# EAGLE library part TX24-120R-6ST-H1E (library con-jae)
CONN RCPT 1.27MM 120POS GOLD PCB
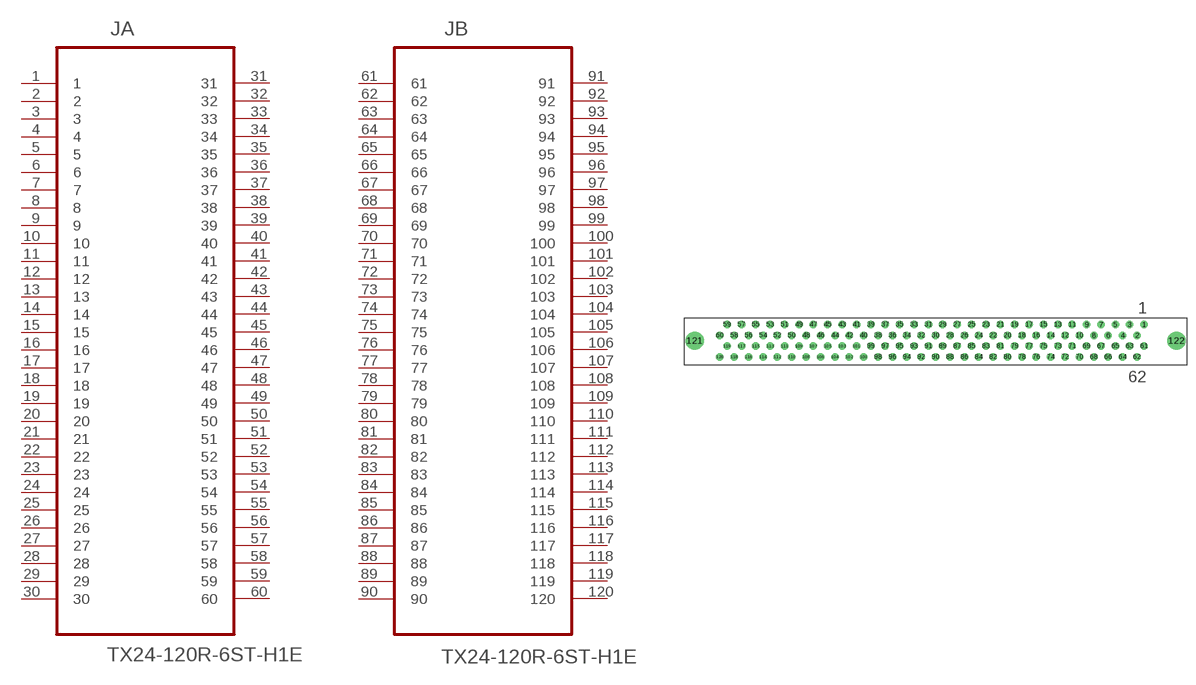
[diagram p16: symbol with the pads of JAE_TX24-120R-6ST-H1E; footprint JAE_TX24-120R-6ST-H1E]

Designator prefix J; gates A=TX24-120R-6ST-H1E_A B=TX24-120R-6ST-H1E_B

## TX24-120R-6ST-H1E (DATASHEETLINK: http://www.jae.com/z-en/pdf_download_exec.cfm?param=SJ038252.pdf; MPN: TX24-120R-6ST-H1E; OC_FARNELL: 1519626; OC_NEWARK: 74M4875; PACKAGE: CONN-120POS; ROHS: Yes; SUPPLIER: JAE)  [JAE_TX24-120R-6ST-H1E]
1  A:1  pas
2  A:2  pas
3  A:3  pas
4  A:4  pas
5  A:5  pas
6  A:6  pas
7  A:7  pas
8  A:8  pas
9  A:9  pas
10  A:10  pas
11  A:11  pas
12  A:12  pas
13  A:13  pas
14  A:14  pas
15  A:15  pas
16  A:16  pas
17  A:17  pas
18  A:18  pas
19  A:19  pas
20  A:20  pas
21  A:21  pas
22  A:22  pas
23  A:23  pas
24  A:24  pas
25  A:25  pas
26  A:26  pas
27  A:27  pas
28  A:28  pas
29  A:29  pas
30  A:30  pas
31  A:31  pas
32  A:32  pas
33  A:33  pas
34  A:34  pas
35  A:35  pas
36  A:36  pas
37  A:37  pas
38  A:38  pas
39  A:39  pas
40  A:40  pas
41  A:41  pas
42  A:42  pas
43  A:43  pas
44  A:44  pas
45  A:45  pas
46  A:46  pas
47  A:47  pas
48  A:48  pas
49  A:49  pas
50  A:50  pas
51  A:51  pas
52  A:52  pas
53  A:53  pas
54  A:54  pas
55  A:55  pas
56  A:56  pas
57  A:57  pas
58  A:58  pas
59  A:59  pas
60  A:60  pas
61  B:61  pas
62  B:62  pas
63  B:63  pas
64  B:64  pas
65  B:65  pas
66  B:66  pas
67  B:67  pas
68  B:68  pas
69  B:69  pas
70  B:70  pas
71  B:71  pas
72  B:72  pas
73  B:73  pas
74  B:74  pas
75  B:75  pas
76  B:76  pas
77  B:77  pas
78  B:78  pas
79  B:79  pas
80  B:80  pas
81  B:81  pas
82  B:82  pas
83  B:83  pas
84  B:84  pas
85  B:85  pas
86  B:86  pas
87  B:87  pas
88  B:88  pas
89  B:89  pas
90  B:90  pas
91  B:91  pas
92  B:92  pas
93  B:93  pas
94  B:94  pas
95  B:95  pas
96  B:96  pas
97  B:97  pas
98  B:98  pas
99  B:99  pas
100  B:100  pas
101  B:101  pas
102  B:102  pas
103  B:103  pas
104  B:104  pas
105  B:105  pas
106  B:106  pas
107  B:107  pas
108  B:108  pas
109  B:109  pas
110  B:110  pas
111  B:111  pas
112  B:112  pas
113  B:113  pas
114  B:114  pas
115  B:115  pas
116  B:116  pas
117  B:117  pas
118  B:118  pas
119  B:119  pas
120  B:120  pas

## Footprint JAE_TX24-120R-6ST-H1E (pad centres in mm)
drill 0.813: 1 36.83,-1.143; 2 35.56,-3.048; 3 34.29,-1.143; 4 33.02,-3.048; 5 31.75,-1.143; 6 30.48,-3.048; 7 29.21,-1.143; 8 27.94,-3.048; 9 26.67,-1.143; 10 25.4,-3.048; 11 24.13,-1.143; 12 22.86,-3.048; 13 21.59,-1.143; 14 20.32,-3.048; 15 19.05,-1.143; 16 17.78,-3.048; 17 16.51,-1.143; 18 15.24,-3.048; 19 13.97,-1.143; 20 12.7,-3.048; 21 11.43,-1.143; 22 10.16,-3.048; 23 8.89,-1.143; 24 7.62,-3.048; 25 6.35,-1.143; 26 5.08,-3.048; 27 3.81,-1.143; 28 2.54,-3.048; 29 1.27,-1.143; 30 0,-3.048; 31 -1.27,-1.143; 32 -2.54,-3.048; 33 -3.81,-1.143; 34 -5.08,-3.048; 35 -6.35,-1.143; 36 -7.62,-3.048; 37 -8.89,-1.143; 38 -10.16,-3.048; 39 -11.43,-1.143; 40 -12.7,-3.048; 41 -13.97,-1.143; 42 -15.24,-3.048; 43 -16.51,-1.143; 44 -17.78,-3.048; 45 -19.05,-1.143; 46 -20.32,-3.048; 47 -21.59,-1.143; 48 -22.86,-3.048; 49 -24.13,-1.143; 50 -25.4,-3.048; 51 -26.67,-1.143; 52 -27.94,-3.048; 53 -29.21,-1.143; 54 -30.48,-3.048; 55 -31.75,-1.143; 56 -33.02,-3.048; 57 -34.29,-1.143; 58 -35.56,-3.048; 59 -36.83,-1.143; 60 -38.1,-3.048; 61 36.83,-4.953; 62 35.56,-6.858; 63 34.29,-4.953; 64 33.02,-6.858; 65 31.75,-4.953; 66 30.48,-6.858; 67 29.21,-4.953; 68 27.94,-6.858; 69 26.67,-4.953; 70 25.4,-6.858; 71 24.13,-4.953; 72 22.86,-6.858; 73 21.59,-4.953; 74 20.32,-6.858; 75 19.05,-4.953; 76 17.78,-6.858; 77 16.51,-4.953; 78 15.24,-6.858; 79 13.97,-4.953; 80 12.7,-6.858; 81 11.43,-4.953; 82 10.16,-6.858; 83 8.89,-4.953; 84 7.62,-6.858; 85 6.35,-4.953; 86 5.08,-6.858; 87 3.81,-4.953; 88 2.54,-6.858; 89 1.27,-4.953; 90 0,-6.858; 91 -1.27,-4.953; 92 -2.54,-6.858; 93 -3.81,-4.953; 94 -5.08,-6.858; 95 -6.35,-4.953; 96 -7.62,-6.858; 97 -8.89,-4.953; 98 -10.16,-6.858; 99 -11.43,-4.953; 100 -12.7,-6.858; 101 -13.97,-4.953; 102 -15.24,-6.858; 103 -16.51,-4.953; 104 -17.78,-6.858; 105 -19.05,-4.953; 106 -20.32,-6.858; 107 -21.59,-4.953; 108 -22.86,-6.858; 109 -24.13,-4.953; 110 -25.4,-6.858; 111 -26.67,-4.953; 112 -27.94,-6.858; 113 -29.21,-4.953; 114 -30.48,-6.858; 115 -31.75,-4.953; 116 -33.02,-6.858; 117 -34.29,-4.953; 118 -35.56,-6.858; 119 -36.83,-4.953; 120 -38.1,-6.858
drill 2.21: 121 -42.545,-3.988; 122 42.545,-3.988